# Altium integrated library Philips Peripheral USB Controller.IntLib: 1 symbol
Pins are listed as number, name and electrical type; pins without a type are passive.

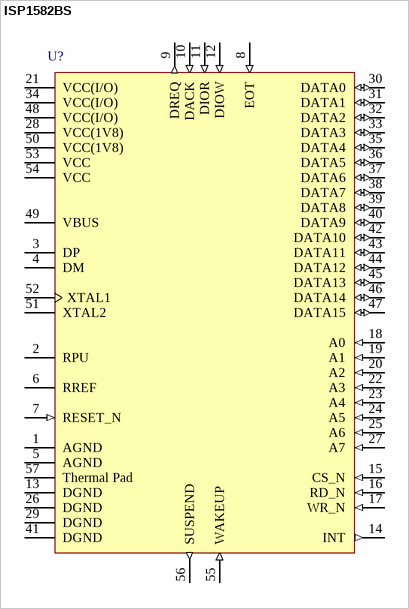
[diagram p0: symbol ISP1582BS]

## ISP1582BS
designator U?
Hi-Speed Universal Serial Bus peripheral controller, HVQFN56; Note: Fill on PCB is exposed die pad (heatsink), connect to DGND; Bus interface: USB at high-speed (480 Mbit/s) and full-speed (12 Mbit/s) data rates; Published: 6-Jun-2005; LatestRevisionDate: 13-Apr-2006; LatestRevisionNote: IPC-7351 Footprint Added.; DatasheetVersion: Rev. 04, Jan-2005; PackageVersion: Oct-2002; PackageReference: SOT684-1; Publisher: Altium Limited; PackageDescription: 56-Pin Plastic Quad Flat No-Lead 0.5 mm Pitch; Application: PDA, DSC, DVC, MP3 player, external storage, printer, scanner, STB; Code_JEDEC: MO-220; ComponentLink1Description: Manufacturer Link; ComponentLink1URL: http://www.semiconductors.philips.com/; ComponentLink2Description: Datasheet; ComponentLink2URL: http://www.semiconductors.philips.com/acrobat/datasheets/ISP1582-04.pdf; ComponentLink3Description: Device Page; ComponentLink3URL: http://www.semiconductors.philips.com/cgi-bin/pldb/pip/isp1582.html
footprint SOT684-1_N (QFN, 56-Leads, Body 8x8mm, Pitch 0.5mm, IPC Medium Density)
footprint SOT684-1_L (QFN, 56-Leads, Body 8x8mm, Pitch 0.5mm, IPC High Density)
footprint SOT684-1_M (QFN, 56-Leads, Body 8x8mm, Pitch 0.5mm, IPC Low Density)
pins: 1 AGND (power) "analog ground", 2 RPU "connect to the external pull-up resistor for pin DP; must be connected to 3.3 V via a 1.5 k resistor", 3 DP "USB D+ line connection (analog)", 4 DM "USB D - line connection (analog)", 5 AGND (power) "analog ground", 6 RREF (power) "connect to the external bias resistor; must be connected to ground via a 12.0 k ± 1% resistor", 7 RESET_N (in) "reset input (500 ms); a LOW level produces an asynchronous reset; connect to VCC for the power-on reset (internal POR circuit); TTL; 5 V tolerant", 8 EOT (in) "End-of-transfer input (programmable polarity); when not in use, connect this pin to VCC(I/O) through a 10 k resistor; input pad; TTL; 5 V tolerant", 9 DREQ (out) "DMA request (programmable polarity) output; when not in use, connect this pin to ground through a 10 k resistor", 10 DACK (in) "DMA acknowledge input (programmable polarity); when not in use, connect this pin to VCC(I/O) through a 10 k resistor TTL; 5 V tolerant", 11 DIOR (in) "DMA read strobe input (programmable polarity); when not in use, connect this pin to VCC(I/O) through a 10 k resistor; TTL; 5 V tolerant", 12 DIOW (in) "DMA write strobe input (programmable polarity); when not in use, connect this pin to VCC(I/O) through a 10 k resistor; TTL; 5 V tolerant", 13 DGND (power) "digital ground", 14 INT (out) "interrupt output; programmable polarity (active HIGH or LOW) and signaling (edge or level triggered); CMOS output; 8 mA drive", 15 CS_N (in) "chip select input; input pad; TTL; 5 V tolerant", 16 RD_N (in) "read strobe input; input pad; TTL; 5 V tolerant", 17 WR_N (in) "write strobe input; input pad; TTL; 5 V tolerant", 18 A0 (in) "bit 0 of the address bus; input pad; TTL; 5 V tolerant", 19 A1 (in) "bit 1 of the address bus; input pad; TTL; 5 V tolerant", 20 A2 (in) "bit 2 of the address bus; input pad; TTL; 5 V tolerant", 21 VCC(I/O) (power) "supply voltage; used to supply voltage to the I/O pads", 22 A3 (in) "bit 3 of the address bus; input pad; TTL; 5 V tolerant", 23 A4 (in) "bit 4 of the address bus; input pad; TTL; 5 V tolerant", 24 A5 (in) "bit 5 of the address bus; input pad; TTL; 5 V tolerant", 25 A6 (in) "bit 6 of the address bus; input pad; TTL; 5 V tolerant", 26 DGND (power) "digital ground", 27 A7 (in) "bit 7 of the address bus; input pad; TTL; 5 V tolerant", 28 VCC(1V8) (power) "regulator output voltage (1.8 V ± 0.15 V); decouple this pin using a 0.1 mF capacitor", 29 DGND (power) "digital ground", 30 DATA0 (io) "bit 0 of bidirectional data bus; bidirectional pad; 4 ns slew-rate control; TTL; 5 V tolerant", 31 DATA1 (io) "bit 1 of bidirectional data bus; bidirectional pad; 4 ns slew-rate control; TTL; 5 V tolerant", 32 DATA2 (io) "bit 2 of bidirectional data bus; bidirectional pad; 4 ns slew-rate control; TTL; 5 V tolerant", 33 DATA3 (io) "bit 3 of bidirectional data bus; bidirectional pad; 4 ns slew-rate control; TTL; 5 V tolerant", 34 VCC(I/O) (power) "supply voltage; used to supply voltage to the I/O pads", 35 DATA4 (io) "bit 4 of bidirectional data bus; bidirectional pad; 4 ns slew-rate control; TTL; 5 V tolerant", 36 DATA5 (io) "bit 5 of bidirectional data bus; bidirectional pad; 4 ns slew-rate control; TTL; 5 V tolerant", 37 DATA6 (io) "bit 6 of bidirectional data bus; bidirectional pad; 4 ns slew-rate control; TTL; 5 V tolerant", 38 DATA7 (io) "bit 7 of bidirectional data bus; bidirectional pad; 4 ns slew-rate control; TTL; 5 V tolerant", 39 DATA8 (io) "bit 8 of bidirectional data bus; bidirectional pad; 4 ns slew-rate control; TTL; 5 V tolerant", 40 DATA9 (io) "bit 9 of bidirectional data bus; bidirectional pad; 4 ns slew-rate control; TTL; 5 V tolerant", 41 DGND (power) "digital ground", 42 DATA10 (io) "bit 10 of bidirectional data bus; bidirectional pad; 4 ns slew-rate control; TTL; 5 V tolerant", 43 DATA11 (io) "bit 11 of bidirectional data bus; bidirectional pad; 4 ns slew-rate control; TTL; 5 V tolerant", 44 DATA12 (io) "bit 12 of bidirectional data bus; bidirectional pad; 4 ns slew-rate control; TTL; 5 V tolerant", 45 DATA13 (io) "bit 13 of bidirectional data bus; bidirectional pad; 4 ns slew-rate control; TTL; 5 V tolerant", 46 DATA14 (io) "bit 14 of bidirectional data bus; bidirectional pad; 4 ns slew-rate control; TTL; 5 V tolerant", 47 DATA15 (io) "bit 15 of bidirectional data bus; bidirectional pad; 4 ns slew-rate control; TTL; 5 V tolerant", 48 VCC(I/O) (power) "supply voltage; used to supply voltage to the I/O pads", 49 VBUS (power) "USB bus power pin sensing input; connect a 1 mF electrolytic capacitor and a 1 M pull-down resistor to ground; 5 V tolerant", 50 VCC(1V8) (power) "regulator output voltage (1.8 V ± 0.15 V); decouple this pin using 4.7 mF and 0.1 mF capacitors", 51 XTAL2 "crystal oscillator output (12 MHz); connect a fundamental parallel-resonant crystal; leave this pin open-circuit when using an external clock source on pin XTAL1", 52 XTAL1 "crystal oscillator input (12 MHz); connect a fundamental parallel-resonant crystal or an external clock source (leaving pin XTAL2 unconnected)", 53 VCC (power) "supply voltage (3.3 V ± 0.3 V); this pin supplies the internal voltage regulator and the analog circuit", 54 VCC (power) "supply voltage (3.3 V ± 0.3 V); this pin supplies the internal voltage regulator and the analog circuit", 55 WAKEUP (in) "wake-up input; when not in use, connect this pin to ground through a 10 k resistor; input pad; TTL; 5 V tolerant", 56 SUSPEND (out) "suspend state indicator output; CMOS output; 8 mA drive", 57 Thermal Pad (power)